# Altium schematic symbol library Schlib.SchLib: 2 symbols
Pins are listed as number, name and electrical type; pins without a type are passive.

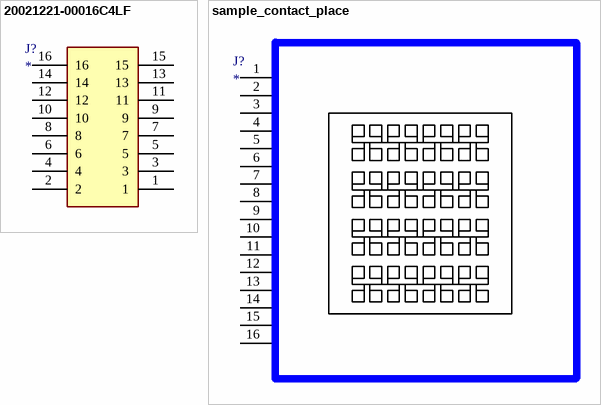
[diagram p0: symbols 20021221-00016C4LF to sample_contact_place]

## 20021221-00016C4LF
designator J?
Connector; Manufacturer_Name: Amphenol; Manufacturer_Part_Number: 20021221-00016C4LF; Height: 5.8mm
footprint 2002122100016C4LF
pins: 1, 2, 3, 4, 5, 6, 7, 8, 9, 10, 11, 12, 13, 14, 15, 16

## sample_contact_place
designator J?
footprint sample
pins: 1, 2, 3, 4, 5, 6, 7, 8, 9, 10, 11, 12, 13, 14, 15, 16